# EAGLE library part TDA04H0JB1R (library SamacSys_Parts)
DIP Switches / SIP Switches SM HalfPitch DIP Swt SPST, 4POS, JTerm Source: Datasheet <https://www.ckswitches.com/media/1328/tda.pdf>
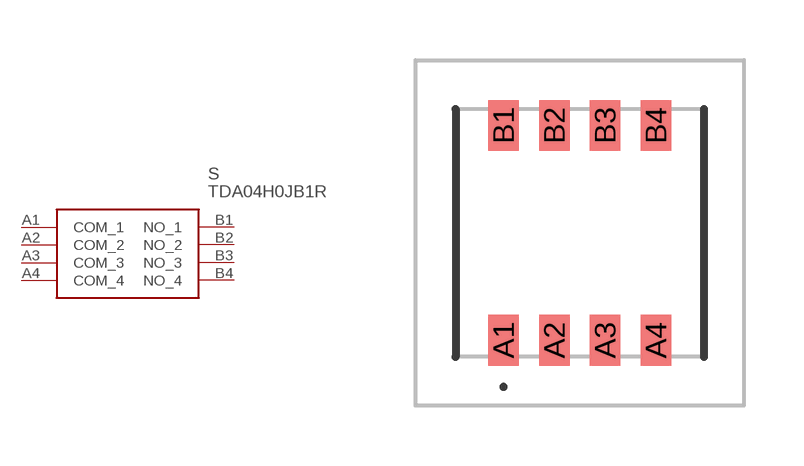
[diagram p146: symbol with the pads of TDA04H0JB1R; footprint TDA04H0JB1R]

Designator prefix S

## TDA04H0JB1R (DESCRIPTION: DIP Switches / SIP Switches SM HalfPitch DIP Swt SPST, 4POS, JTerm; HEIGHT: 2.35mm; MANUFACTURER_NAME: C & K COMPONENTS; MANUFACTURER_PART_NUMBER: TDA04H0JB1R; MOUSER_PART_NUMBER: 611-TDA04H0JB1R; MOUSER_PRICE-STOCK: https://www.mouser.co.uk/ProductDetail/CK/TDA04H0JB1R?qs=lOK7l5uMVC%252B4ctydpQjPHQ%3D%3D)  [TDA04H0JB1R]
A1  COM_1
A2  COM_2
A3  COM_3
A4  COM_4
B1  NO_1
B2  NO_2
B3  NO_3
B4  NO_4

## Footprint TDA04H0JB1R (pad centres in mm)
TDA04H0JB1R-2
smd 0.76 x 1.27: A1 -1.905,-2.685; A2 -0.635,-2.685; A3 0.635,-2.685; A4 1.905,-2.685; B1 -1.905,2.685; B2 -0.635,2.685; B3 0.635,2.685; B4 1.905,2.685